# Altium schematic symbol library Passive.SchLib: 9 symbols
Pins are listed as number, name and electrical type; pins without a type are passive.

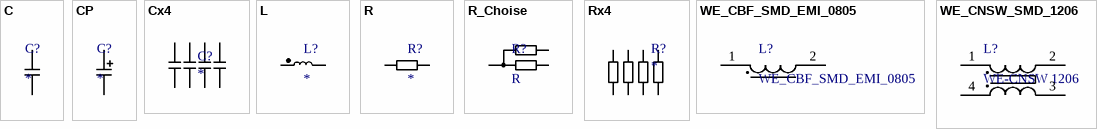
[diagram p0: symbols C to WE_CNSW_SMD_1206]

## C
designator C?
Capacitor
footprint DIP CAP
footprint C0201 (SMD Body 0.6 x 0.3 mm (LxW typ))
footprint C0402
footprint C0603
footprint C0805
footprint C1206
pins: 1, 2
1 alternate drawing of the same symbol

## CP
designator C?
Capacitor polarized
footprint C_EL_4
footprint C_EL_5
footprint C_EL_6.3
footprint C_EL_8
footprint C_EL_10
footprint DIP CAP-D10
footprint SMD A (SMD A Tantalum electrolytic capacitor)
footprint SMD B (SMD B Tantalum electrolytic capacitor)
footprint SMD C (SMD C Tantalum electrolytic capacitor)
footprint SMD D (SMD D Tantalum electrolytic capacitor)
footprint SMD E (SMD E Tantalum electrolytic capacitor)
footprint SMD V (SMD V Tantalum electrolytic capacitor)
pins: 1, 2
2 alternate drawings of the same symbol

## Cx4
designator C?
Capacitors array
footprint C0508-4 (Capacitor array (4 caps))
footprint C0612-4 (Capacitor array (4 caps))
pins: 1, 2, 3, 4, 5, 6, 7, 8

## L
designator L?
Inductor
footprint L2020
footprint L1008 (Inductor 1008 package)
footprint SDR0403 (Bourns Inductor SDR0403 series)
footprint L0201 (SMD Body 0.6 x 0.3 mm (LxW typ))
footprint L0402
footprint L0603
footprint L0805
footprint NR60 (TAIYO INDUCTOR)
pins: 1, 2
1 alternate drawing of the same symbol

## R
designator R?
Resistor
footprint DIP RES
footprint DIP RES VERT
footprint R0201 (SMD Body 0.6 x 0.3 mm (LxW typ))
footprint R0402
footprint R0603
footprint R0805
footprint R1206
footprint R2010 (SMD Body 5 x 2.5 mm (LxW typ))
footprint R2512
pins: 1, 2
1 alternate drawing of the same symbol

## R_Choise
designator R?, comment R
R for choise
footprint R0603_CHOICE (0603 placement for choice line)
pins: 1, 2, 3

## Rx4
designator R?
Resistors array
footprint R0508-4 (Resistor array (4 resistors))
footprint R0612-4 (Resistor array (4 resistors))
pins: 1, 2, 3, 4, 5, 6, 7, 8

## WE_CBF_SMD_EMI_0805
designator L?
WE-CBF SMD EMI Suppression Ferrite Bead 0805 742792042
footprint L0805
pins: 1, 2
1 alternate drawing of the same symbol

## WE_CNSW_SMD_1206
designator L?, comment WE-CNSW 1206
WE-CNSW SMD 1206 Common Mode Line Filter 744232222
footprint WE_CNSW_SMD_1206 (WE-CNSW SMD 1206 Common Mode Line Filter 744232222)
pins: 1, 2, 3, 4
1 alternate drawing of the same symbol